# EAGLE library part PCA9306DCU (library U96-SVM)
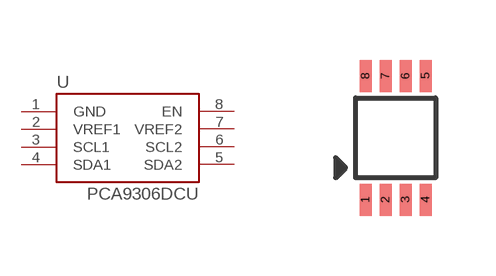
[diagram p0: symbol with the pads of TI-DCU8; footprint TI-DCU8]

Designator prefix U

## PCA9306DCU  [TI-DCU8]
1  GND
2  VREF1
3  SCL1
4  SDA1
5  SDA2
6  SCL2
7  VREF2
8  EN

## Footprint TI-DCU8 (pad centres in mm)
smd 0.3 x 0.8: 1 -0.75,-1.55; 2 -0.25,-1.55; 3 0.25,-1.55; 4 0.75,-1.55; 5 0.75,1.55; 6 0.25,1.55; 7 -0.25,1.55; 8 -0.75,1.55